# Altium footprint library TCU1.PcbLib: 22 footprints (part 2 of 2)
Each footprint in its own frame and in the unit in brackets; x right, y up, seen from the top. Pads: shape width x height; smd on the part's side, far side on the other; paste and mask are expansions set on the pad; w line width, h text height; cw(c..) or ccw(c..) is an arc to the next point about the centre after c.
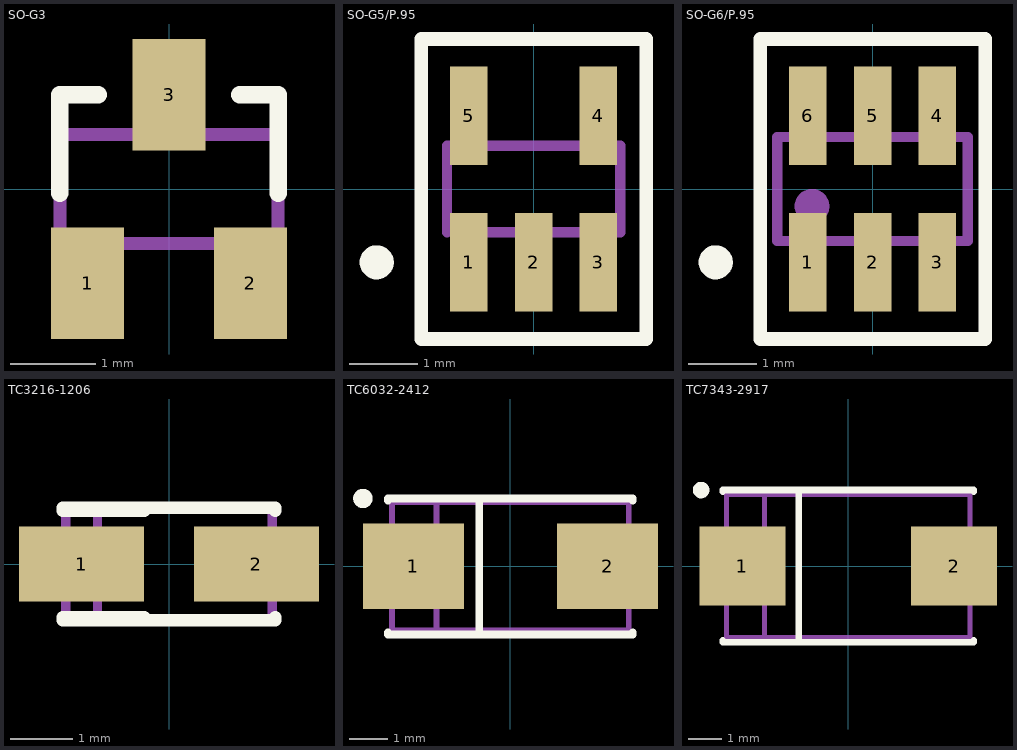
[diagram p1: the footprints below, top view; thin cyan lines are the x and y axes]

## SO-G3 [mm]
pads (3):
  rect 0.85x1.3 smd: 1(-0.95,-1.1) 2(0.95,-1.1) 3(0,1.1)
Top Overlay:
  lines w0.2: -1.275,-0.05 -1.275,1.1 -0.825,1.1 ; 0.825,1.1 1.275,1.1 1.275,-0.05
Mechanical 3:
  lines w0.15: -1.143,-0.635 -1.143,-1.27 -0.762,-1.27 -0.762,-0.635 ; -0.254,0.635 -0.254,1.27 0.254,1.27 0.254,0.635 ; 0.762,-0.635 0.762,-1.27 1.143,-1.27 1.143,-0.635 ; -1.27,-0.635 1.27,-0.635 1.27,0.635 -1.27,0.635 -1.27,-0.635
3D body: height 1.05, standoff -0.05, extent -1.5,-1.27 1.5,1.23

## SO-G5/P.95 [mm]
pads (5):
  rect 0.55x1.45 smd: 1(-0.95,-1.075) 2(0,-1.075) 3(0.95,-1.075) 4(0.95,1.075) 5(-0.95,1.075)
Top Overlay:
  circle w0.25: c-2.3,-1.075 r0.125
  lines w0.2: -1.65,-2.2 -1.65,2.2 1.65,2.2 1.65,-2.2 -1.65,-2.2
Mechanical 3:
  lines w0.15: -1.27,-0.635 -1.27,0.635 1.27,0.635 1.27,-0.635 -1.143,-0.635 -1.143,-1.143 -1.143,-1.27 -0.762,-1.27 -0.762,-1.111 -0.762,-0.794 -0.762,-0.635 ; -1.143,0.635 -1.143,1.27 -0.762,1.27 -0.762,0.635 ; -0.127,-0.635 -0.127,-1.27 0.127,-1.27 0.127,-0.635 ; 0.762,-0.635 0.762,-1.27 1.143,-1.27 1.143,-0.635 ; 0.762,0.635 0.762,1.27 1.143,1.27 1.143,0.635
3D body: height 0.94, standoff -0.02, extent -1.45,-1.591 1.45,1.6

## SO-G6/P.95 [mm]
pads (6):
  rect 0.55x1.45 smd: 1(-0.95,-1.075) 2(0,-1.075) 3(0.95,-1.075) 4(0.95,1.075) 5(0,1.075) 6(-0.95,1.075)
Top Overlay:
  circle w0.25: c-2.3,-1.075 r0.125
  lines w0.2: -1.65,-2.2 1.65,-2.2 1.65,2.2 -1.65,2.2 -1.65,-2.2
Mechanical 3:
  circle w0.254: c-0.889,-0.254 r0.127
  lines w0.15: -1.143,-0.762 -1.143,-1.27 -0.762,-1.27 -0.762,-0.762 ; -1.143,0.762 -1.143,1.27 -0.762,1.27 -0.762,0.762 ; -0.127,-0.762 -0.127,-1.27 0.127,-1.27 0.127,-0.762 ; 0.127,0.762 0.127,1.27 -0.127,1.27 ; 0.762,-0.762 0.762,-1.27 1.143,-1.27 1.143,-0.762 ; 0.762,0.762 0.762,1.27 1.143,1.27 1.143,0.762 ; -0.127,1.27 -0.127,0.762 -0.127,1.27 ; -1.397,-0.762 1.397,-0.762 1.397,0.762 -1.397,0.762 -1.397,-0.762
3D body: height 1.5, standoff 0.04, extent -1.501,-1.501 1.499,1.499

## TC3216-1206 [mm]
pads (2):
  rect 2x1.2 smd: 1(-1.4,0) 2(1.4,0)
Top Overlay:
  lines w0.2: -1.7,-0.9 1.7,-0.9 1.7,-0.85 ; -1.7,-0.85 -0.4,-0.85 ; -1.7,0.85 -0.4,0.85 ; -1.7,0.9 1.7,0.9 1.7,0.85
Mechanical 3:
  lines w0.15: -1.651,-0.508 -1.905,-0.508 -1.905,0.508 -1.651,0.508 ; -1.524,0.889 1.651,0.889 1.651,-0.889 -1.651,-0.889 -1.651,0.889 -1.397,0.889 ; -1.143,-0.889 -1.143,0.889 ; 1.651,-0.508 1.905,-0.508 1.905,0.508 1.651,0.508
3D body: height 1.8, standoff -0.04, extent -2.4,-0.9 2.396,0.903

## TC6032-2412 [mm]
pads (2):
  rect 2.6x2.2 smd: 1(-2.5,0) 2(2.5,0)
Top Overlay:
  circle w0.25: c-3.8,1.75 r0.125
  lines w0.2: -3.15,-1.7 -3.15,-1.75 3.15,-1.75 3.15,-1.7 ; -3.15,1.7 -3.15,1.75 3.15,1.75 3.15,1.7 ; -0.8,-1.75 -0.8,1.75
Mechanical 3:
  lines w0.15: -3.048,-0.889 -3.302,-0.889 -3.302,0.889 -3.048,0.889 ; -1.905,-1.651 -1.905,1.651 ; 3.048,-0.889 3.302,-0.889 3.302,0.889 3.048,0.889 ; -3.048,-1.651 -3.048,1.651 3.048,1.651 3.048,-1.651 -3.048,-1.651
3D body: height 2.79, standoff -0.04, extent -3.799,-1.735 3.799,1.778

## TC7343-2917 [mm]
pads (2):
  rect 2.6x2.4 smd: 1(-3.2,0) 2(3.2,0)
Top Overlay:
  circle w0.25: c-4.45,2.3 r0.125
  lines w0.2: -3.8,-2.25 -3.8,-2.3 3.8,-2.3 3.8,-2.25 ; -3.8,2.25 -3.8,2.3 3.8,2.3 3.8,2.25 ; -1.5,-2.3 -1.5,2.3
Mechanical 3:
  lines w0.15: -3.683,-1.016 -3.937,-1.016 -3.937,1.016 -3.683,1.016 ; -2.54,-2.159 -2.54,2.159 ; 3.683,-1.016 3.937,-1.016 3.937,-0.889 3.937,1.016 3.683,1.016 ; -3.683,-2.159 -3.683,2.159 -3.556,2.159 3.683,2.159 3.683,-2.159 -3.683,-2.159
3D body: height 2.8, standoff 0, extent -3.746,-2.159 3.746,2.159